# Altium footprint library NNLightSwitcher.PcbLib: 50 footprints (part 2 of 4)
Each footprint in its own frame and in the unit in brackets; x right, y up, seen from the top. Pads: shape width x height; smd on the part's side, far side on the other; paste and mask are expansions set on the pad; w line width, h text height; cw(c..) or ccw(c..) is an arc to the next point about the centre after c.
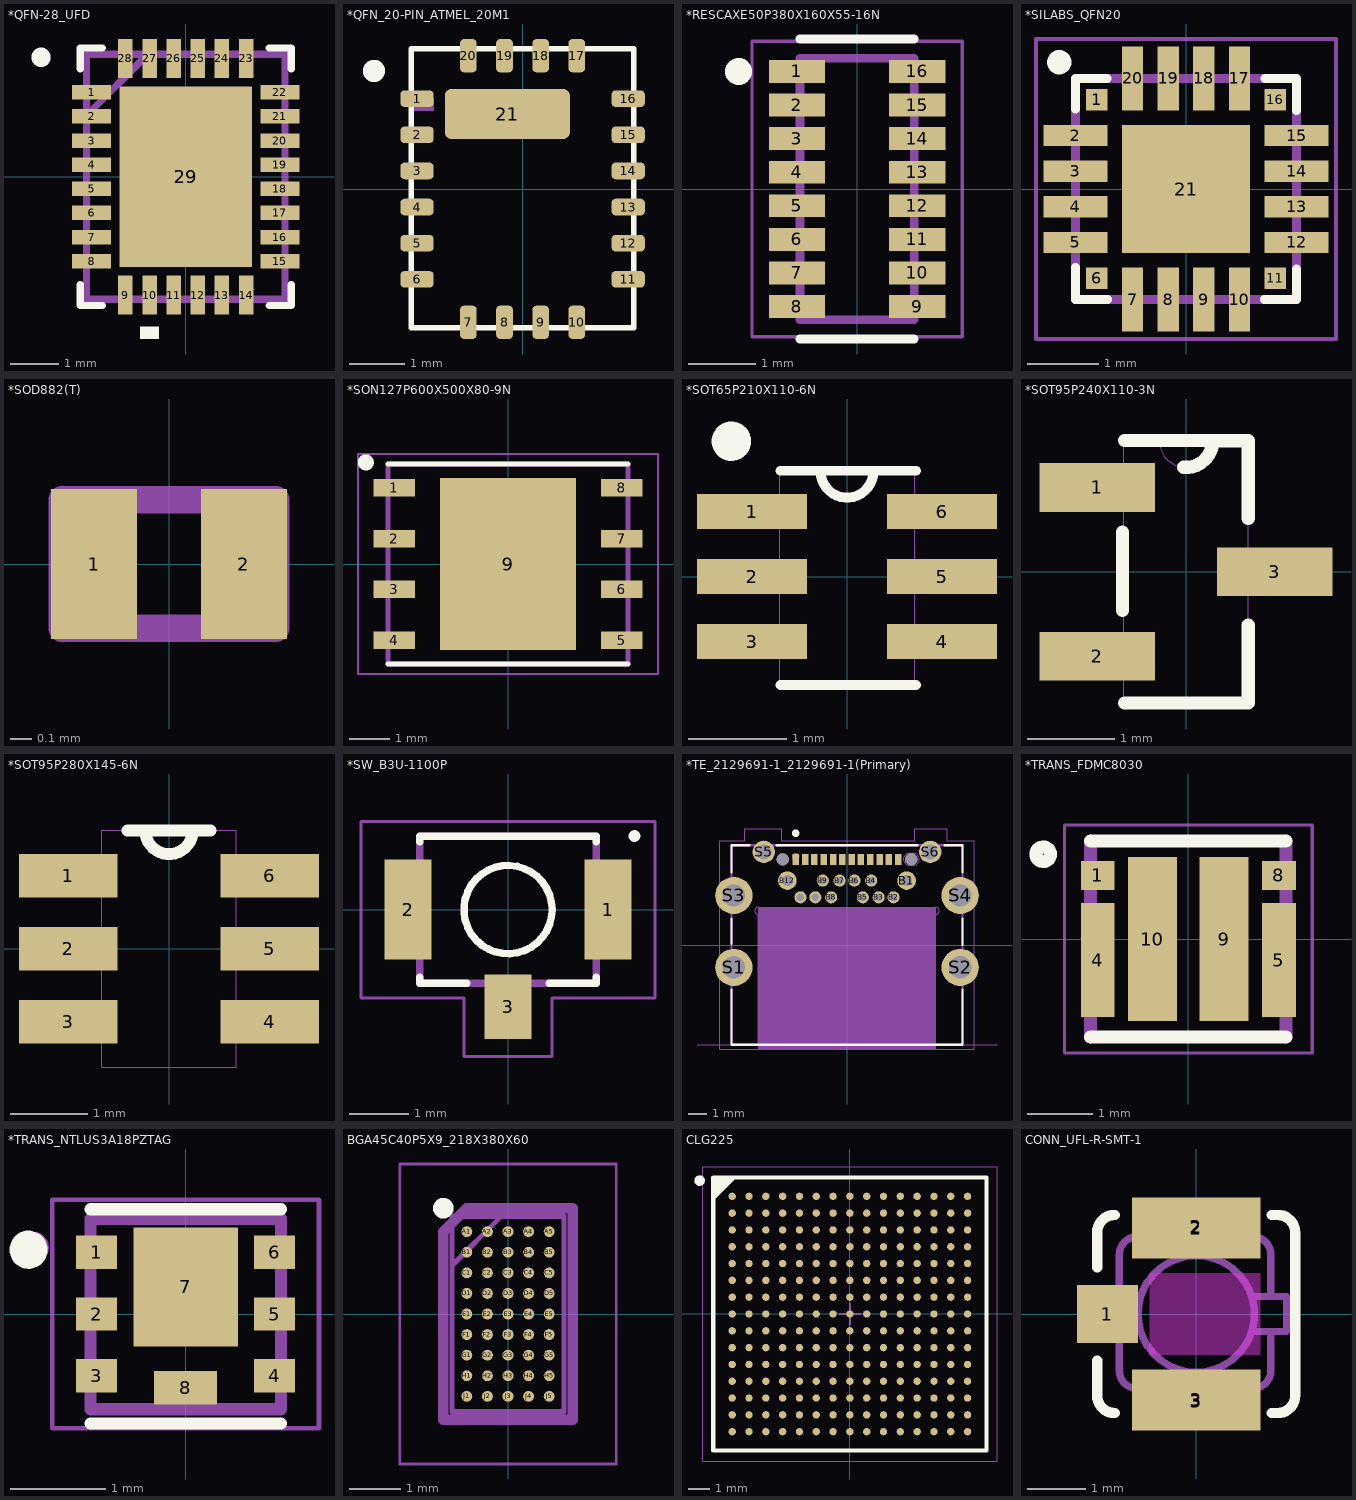
[diagram p1: the footprints below, top view; thin cyan lines are the x and y axes]

## *QFN-28_UFD [mm]
pads (29):
  rect 0.805x0.3 smd: 1(-1.952,1.75) 2(-1.952,1.25) 3(-1.952,0.75) 4(-1.952,0.25) 5(-1.952,-0.25) 6(-1.952,-0.75) 7(-1.952,-1.25) 8(-1.952,-1.75) 15(1.952,-1.75) 16(1.952,-1.25) 17(1.952,-0.75) 18(1.952,-0.25) 19(1.952,0.25) 20(1.952,0.75) 21(1.952,1.25) 22(1.952,1.75)
  rect 0.3x0.805 smd: 9(-1.25,-2.452) 10(-0.75,-2.452) 11(-0.25,-2.452) 12(0.25,-2.452) 13(0.75,-2.452) 14(1.25,-2.452) 23(1.25,2.452) 24(0.75,2.452) 25(0.25,2.452) 26(-0.25,2.452) 27(-0.75,2.452) 28(-1.25,2.452)
  rect 2.75x3.75 smd: 29(0,0)
Top Overlay:
  circle w0.3: c-3,2.475 r0.05
  region: -0.941,-3.109 -0.941,-3.363 -0.56,-3.363 -0.56,-3.109
  lines w0.152: -2.184,-2.235 -2.184,-2.667 -1.727,-2.667 ; -2.184,2.235 -2.184,2.667 -1.727,2.667 ; 1.727,-2.667 2.184,-2.667 2.184,-2.235 ; 1.727,2.667 2.184,2.667 2.184,2.235
Top Paste:
  region: 0.1,-0.1 0.1,-1.775 1.275,-1.775 1.275,-0.1
  region: 0.1,1.775 0.1,0.1 1.275,0.1 1.275,1.775
  region: -1.275,-0.1 -1.275,-1.775 -0.1,-1.775 -0.1,-0.1
  region: -1.275,1.775 -1.275,0.1 -0.1,0.1 -0.1,1.775
Mechanical 4:
  lines w0.152: -2.057,-2.54 -2.057,2.54 ; -2.057,-2.54 2.057,-2.54 ; -2.057,-2.54 -2.057,2.54 ; -2.057,-2.54 2.057,-2.54 ; -2.057,2.54 2.057,2.54 ; -2.057,2.54 2.057,2.54 ; 2.057,-2.54 2.057,2.54 ; 2.057,-2.54 2.057,2.54 ; -2.057,-1.905 -2.057,-1.6 -2.057,-1.905 ; -2.057,-1.397 -2.057,-1.092 -2.057,-1.397 ; -2.057,-0.889 -2.057,-0.61 -2.057,-0.889 ; -2.057,-0.406 -2.057,-0.102 -2.057,-0.406 ; -2.057,0.102 -2.057,0.406 -2.057,0.102 ; -2.057,0.61 -2.057,0.889 -2.057,0.61 ; -2.057,1.092 -2.057,1.397 -2.057,1.092 ; -2.057,1.27 -0.787,2.54 -2.057,1.27 ; -2.057,1.6 -2.057,1.905 -2.057,1.6 ; -1.397,-2.54 -1.092,-2.54 -1.397,-2.54 ; -1.397,2.54 -1.092,2.54 -1.397,2.54 ; -0.889,-2.54 -0.61,-2.54 -0.889,-2.54 ; -0.889,2.54 -0.61,2.54 -0.889,2.54 ; -0.406,-2.54 -0.102,-2.54 -0.406,-2.54 ; -0.406,2.54 -0.102,2.54 -0.406,2.54 ; 0.102,-2.54 0.406,-2.54 0.102,-2.54 ; 0.102,2.54 0.406,2.54 0.102,2.54 ; 0.61,-2.54 0.889,-2.54 0.61,-2.54 ; 0.61,2.54 0.889,2.54 0.61,2.54 ; 1.092,-2.54 1.397,-2.54 1.092,-2.54 ; 1.092,2.54 1.397,2.54 1.092,2.54 ; 2.057,-1.905 2.057,-1.6 2.057,-1.905 ; 2.057,-1.397 2.057,-1.092 2.057,-1.397 ; 2.057,-0.889 2.057,-0.61 2.057,-0.889 ; 2.057,-0.406 2.057,-0.102 2.057,-0.406 ; 2.057,0.102 2.057,0.406 2.057,0.102 ; 2.057,0.61 2.057,0.889 2.057,0.61 ; 2.057,1.092 2.057,1.397 2.057,1.092 ; 2.057,1.6 2.057,1.905 2.057,1.6
  text "*" at -2.134,1.122 h1.88
  text "*" at -2.134,1.122 h1.88
3D body: height 1, standoff 0, extent -2.175,-2.65 2.2,2.65

## *QFN_20-PIN_ATMEL_20M1 [mm]
pads (21):
  rrect50% 0.6x0.3 smd: 1(-1.9,1.625) 2(-1.9,0.975) 3(-1.9,0.325) 4(-1.9,-0.325) 5(-1.9,-0.975) 6(-1.9,-1.625) 11(1.9,-1.625) 12(1.9,-0.975) 13(1.9,-0.325) 14(1.9,0.325) 15(1.9,0.975) 16(1.9,1.625)
  rrect50% 0.3x0.6 smd: 7(-0.975,-2.4) 8(-0.325,-2.4) 9(0.325,-2.4) 10(0.975,-2.4) 17(0.975,2.4) 18(0.325,2.4) 19(-0.325,2.4) 20(-0.975,2.4)
  rrect25% 2.25x0.9 smd: 21(-0.275,1.35)
Top Overlay:
  circle w0.3: c-2.675,2.125 r0.05
  lines w0.1: -2,-2.5 2,-2.5 2,2.525 -2,2.525 -2,-2.5
Mechanical 4:
  region: -2,1.64 -1.6,1.64 -1.6,1.41 -2,1.41
  region: -2,1.64 -1.6,1.64 -1.6,1.41 -2,1.41
3D body: height 0.7, standoff 0, extent -1.975,-2.5 2,2.525

## *RESCAXE50P380X160X55-16N [mm]
pads (16):
  rect 0.84x0.34 smd: 1(-0.895,1.75) 2(-0.895,1.25) 3(-0.895,0.75) 4(-0.895,0.25) 5(-0.895,-0.25) 6(-0.895,-0.75) 7(-0.895,-1.25) 8(-0.895,-1.75) 9(0.895,-1.75) 10(0.895,-1.25) 11(0.895,-0.75) 12(0.895,-0.25) 13(0.895,0.25) 14(0.895,0.75) 15(0.895,1.25) 16(0.895,1.75)
Top Overlay:
  circle w0.2: c-1.765,1.75 r0.1
  lines w0.127: -0.85,-2.234 0.85,-2.234 ; -0.85,2.234 0.85,2.234
Mechanical 4:
  circle w0.2: c-1.765,1.75 r0.1
  circle w0.2: c-1.765,1.75 r0.1
  lines w0.127: -0.85,-1.95 0.85,-1.95 ; -0.85,-1.95 -0.85,1.95 ; -0.85,-1.95 0.85,-1.95 ; -0.85,-1.95 -0.85,1.95 ; -0.85,1.95 0.85,1.95 ; -0.85,1.95 0.85,1.95 ; 0.85,-1.95 0.85,1.95 ; 0.85,-1.95 0.85,1.95
Mechanical 16:
  lines w0.05: -1.565,-2.2 -1.565,2.2 1.565,2.2 1.565,-2.2 -1.565,-2.2
3D body "User Library-YC248-1.step": height 0.45, standoff 0, extent -0.8,-2 0.8,2

## *SILABS_QFN20 [mm]
pads (21):
  rect 0.3x0.3 smd: 1(-1.25,1.25) 6(-1.25,-1.25) 11(1.25,-1.25) 16(1.25,1.25)
  rect 0.9x0.3 smd: 2(-1.55,0.75) 3(-1.55,0.25) 4(-1.55,-0.25) 5(-1.55,-0.75) 12(1.55,-0.75) 13(1.55,-0.25) 14(1.55,0.25) 15(1.55,0.75)
  rect 0.3x0.9 smd: 7(-0.75,-1.55) 8(-0.25,-1.55) 9(0.25,-1.55) 10(0.75,-1.55) 17(0.75,1.55) 18(0.25,1.55) 19(-0.25,1.55) 20(-0.75,1.55)
  rect 1.8x1.8 smd: 21(0,0)
Top Overlay:
  circle w0.2: c-1.778,1.778 r0.07
  lines w0.127: -1.55,-1.1 -1.55,-1.55 -1.1,-1.55 ; -1.55,1.12 -1.55,1.55 -1.11,1.55 ; 1.1,-1.55 1.55,-1.55 1.55,-1.12 ; 1.11,1.55 1.55,1.55 1.55,1.1
Mechanical 4:
  lines w0.127: -1.55,-1.55 1.55,-1.55 ; -1.55,-1.55 -1.55,1.55 ; -1.55,-1.55 1.55,-1.55 ; -1.55,-1.55 -1.55,1.55 ; -1.55,1.55 1.55,1.55 ; -1.55,1.55 1.55,1.55 ; 1.55,-1.55 1.55,1.55 ; 1.55,-1.55 1.55,1.55
Mechanical 16:
  lines w0.05: -2.104,-2.104 2.104,-2.104 2.104,2.104 -2.104,2.104 -2.104,-2.104
3D body "User Library-QFN-20.STEP": height 0.62, standoff -0.08, extent -1.5,-1.475 1.5,1.525

## *SOD882(T) [mm]
pads (2):
  rect 0.4x0.7 smd: 1(-0.35,0) 2(0.35,0)
Top Paste:
  region: 0.2,0.3 0.5,0.3 0.5,-0.3 0.2,-0.3
  region: -0.5,0.3 -0.2,0.3 -0.2,-0.3 -0.5,-0.3
Top Solder:
  region: 0.1,0.4 0.6,0.4 0.6,-0.4 0.1,-0.4
  region: -0.6,0.4 -0.1,0.4 -0.1,-0.4 -0.6,-0.4
Mechanical 4:
  region: -0.45,0.35 -0.15,0.35 -0.15,-0.35 -0.45,-0.35
  region: -0.45,0.35 -0.15,0.35 -0.15,-0.35 -0.45,-0.35
  lines w0.127: -0.5,-0.3 -0.5,0.3 ; -0.5,-0.3 0.5,-0.3 ; -0.5,-0.3 -0.5,0.3 ; -0.5,-0.3 0.5,-0.3 ; -0.5,0.3 0.5,0.3 ; -0.5,0.3 0.5,0.3 ; 0.5,-0.3 0.5,0.3 ; 0.5,-0.3 0.5,0.3
3D body: height 0.5, standoff 0, extent -0.525,-0.325 0.525,0.325

## *SON127P600X500X80-9N [mm]
pads (9):
  rect 1.04x0.44 smd: 1(-2.845,1.905) 2(-2.845,0.635) 3(-2.845,-0.635) 4(-2.845,-1.905) 5(2.845,-1.905) 6(2.845,-0.635) 7(2.845,0.635) 8(2.845,1.905)
  rect 3.4x4.3 smd: 9(0,0)
Top Overlay:
  circle w0.2: c-3.556,2.54 r0.1
  lines w0.127: -3,-2.5 3,-2.5 ; -3,2.5 3,2.5
Top Paste:
  region: -1.076,1.36 1.075,1.36 1.075,-1.361 -1.076,-1.361
Mechanical 4:
  lines w0.127: -3,-2.5 -3,2.5 ; -3,-2.5 3,-2.5 ; -3,-2.5 -3,2.5 ; -3,-2.5 3,-2.5 ; -3,2.5 3,2.5 ; -3,2.5 3,2.5 ; 3,-2.5 3,2.5 ; 3,-2.5 3,2.5
Mechanical 16:
  lines w0.05: -3.75,-2.75 -3.75,2.75 3.75,2.75 3.75,-2.75 -3.75,-2.75
3D body: height 0.7, standoff 0, extent -3,-2.5 3,2.5

## *SOT65P210X110-6N [mil]
pads (6):
  rect 44x14 smd: 1(-38,26) 2(-38,0) 3(-38,-26) 4(38,-26) 5(38,0) 6(38,26)
Top Overlay:
  circle w7.87: c-46.26,54.13 r3.94
  lines w3.94: -26.57,-43.31 27.56,-43.31 ; -26.57,42.32 27.56,42.32 ; -10.42,40.42 ccw(c0,42.13) 10.42,40.42
Mechanical 4:
  lines w0: -43,-31 -43,-20 ; -43,-31 -27,-31 ; -43,-31 -43,-20 ; -43,-31 -27,-31 ; -43,-20 -27,-20 ; -43,-20 -27,-20 ; -43,-6 -43,6 ; -43,-6 -27,-6 ; -43,-6 -43,6 ; -43,-6 -27,-6 ; -43,6 -27,6 ; -43,6 -27,6 ; -43,20 -43,31 ; -43,20 -27,20 ; -43,20 -43,31 ; -43,20 -27,20 ; -43,31 -27,31 ; -43,31 -27,31 ; -27,-43 27,-43 ; -27,-43 -27,-31 ; -27,-43 27,-43 ; -27,-43 -27,-31 ; -27,-31 -27,-20 ; -27,-31 -27,-20 ; -27,-20 -27,-6 ; -27,-20 -27,-6 ; -27,-6 -27,6 ; -27,-6 -27,6 ; -27,6 -27,20 ; -27,6 -27,20 ; -27,20 -27,31 ; -27,20 -27,31 ; -27,31 -27,43 ; -27,31 -27,43 ; -27,43 -12,43 ; -27,43 -12,43 ; -12,43 ccw(c0,43) 12,43 ; -12,43 ccw(c0,43) 12,43 ; -12,43 12,43 ; -12,43 12,43 ; 12,43 27,43 ; 12,43 27,43 ; 27,-43 27,-31 ; 27,-43 27,-31 ; 27,-31 27,-20 ; 27,-31 43,-31 ; 27,-31 27,-20 ; 27,-31 43,-31 ; 27,-20 27,-6 ; 27,-20 43,-20 ; 27,-20 27,-6 ; 27,-20 43,-20 ; 27,-6 27,6 ; 27,-6 43,-6 ; 27,-6 27,6 ; 27,-6 43,-6 ; 27,6 27,20 ; 27,6 43,6 ; 27,6 27,20 ; 27,6 43,6 ; 27,20 27,31 ; 27,20 43,20 ; 27,20 27,31 ; 27,20 43,20 ; 27,31 27,43 ; 27,31 43,31 ; 27,31 27,43 ; 27,31 43,31 ; 43,-31 43,-20 ; 43,-31 43,-20 ; 43,-6 43,6 ; 43,-6 43,6 ; 43,20 43,31 ; 43,20 43,31
3D body "User Library-TSSOP-6 (SOT-23-6 PITCH 0_65).STEP": height 45.28, standoff 1.57, extent -44.29,-44.29 44.29,44.3

## *SOT95P240X110-3N [mil]
pads (3):
  rect 52x22 smd: 1(-40,38) 2(-40,-38) 3(40,0)
Top Overlay:
  lines w6: -28.54,-17.28 -28.54,17.72 ; -27.56,-59.06 28,-59 28,-24 ; -27.56,59.06 12,59 28,59 28,24 ; -1.04,47 ccw(c0,58.96) 12,58.96
Mechanical 4:
  lines w0: -49,-48 -49,-28 ; -49,-48 -28,-48 ; -49,-48 -49,-28 ; -49,-48 -28,-48 ; -49,-28 -28,-28 ; -49,-28 -28,-28 ; -49,28 -49,48 ; -49,28 -28,28 ; -49,28 -49,48 ; -49,28 -28,28 ; -49,48 -28,48 ; -49,48 -28,48 ; -28,-59 28,-59 ; -28,-59 -28,-48 ; -28,-59 28,-59 ; -28,-59 -28,-48 ; -28,-48 -28,-28 ; -28,-48 -28,-28 ; -28,-28 -28,28 ; -28,-28 -28,28 ; -28,28 -28,48 ; -28,28 -28,48 ; -28,48 -28,59 ; -28,48 -28,59 ; -28,59 -12,59 ; -28,59 -12,59 ; -12,59 ccw(c0,59) 12,59 ; -12,59 ccw(c0,59) 12,59 ; -12,59 12,59 ; -12,59 12,59 ; 12,59 28,59 ; 12,59 28,59 ; 28,-59 28,-10 ; 28,-59 28,-10 ; 28,-10 28,10 ; 28,-10 49,-10 ; 28,-10 28,10 ; 28,-10 49,-10 ; 28,10 28,59 ; 28,10 49,10 ; 28,10 28,59 ; 28,10 49,10 ; 49,-10 49,10 ; 49,-10 49,10
3D body "CircuitWorks-SOT-23.step": height 41.34, standoff -1.97, extent -50.2,-59.05 48.22,59.06

## *SOT95P280X145-6N [mil]
pads (6):
  rect 50x22 smd: 1(-51,37) 2(-51,0) 3(-51,-37) 4(51,-37) 5(51,0) 6(51,37)
Top Overlay:
  lines w6: -21,60 -12,60 ; 21,60 12,60 ; -12,60 ccw(c0,60) 12,60 ; -12,60 12,60
Mechanical 4:
  lines w0: -59,-47 -34,-47 ; -59,-47 -59,-28 ; -59,-47 -34,-47 ; -59,-47 -59,-28 ; -59,-28 -34,-28 ; -59,-28 -34,-28 ; -59,-10 -34,-10 ; -59,-10 -59,10 ; -59,-10 -34,-10 ; -59,-10 -59,10 ; -59,10 -34,10 ; -59,10 -34,10 ; -59,28 -34,28 ; -59,28 -59,47 ; -59,28 -34,28 ; -59,28 -59,47 ; -59,47 -34,47 ; -59,47 -34,47 ; -34,-60 -34,-47 ; -34,-60 34,-60 ; -34,-60 -34,-47 ; -34,-60 34,-60 ; -34,-47 -34,-28 ; -34,-47 -34,-28 ; -34,-28 -34,-10 ; -34,-28 -34,-10 ; -34,-10 -34,10 ; -34,-10 -34,10 ; -34,10 -34,28 ; -34,10 -34,28 ; -34,28 -34,47 ; -34,28 -34,47 ; -34,47 -34,60 ; -34,47 -34,60 ; -34,60 -12,60 ; -34,60 -12,60 ; -12,60 ccw(c0,60) 12,60 ; -12,60 ccw(c0,60) 12,60 ; -12,60 12,60 ; -12,60 12,60 ; 12,60 34,60 ; 12,60 34,60 ; 34,-60 34,-47 ; 34,-60 34,-47 ; 34,-47 59,-47 ; 34,-47 34,-28 ; 34,-47 59,-47 ; 34,-47 34,-28 ; 34,-28 59,-28 ; 34,-28 34,-10 ; 34,-28 59,-28 ; 34,-28 34,-10 ; 34,-10 59,-10 ; 34,-10 34,10 ; 34,-10 59,-10 ; 34,-10 34,10 ; 34,10 59,10 ; 34,10 34,28 ; 34,10 59,10 ; 34,10 34,28 ; 34,28 59,28 ; 34,28 34,47 ; 34,28 59,28 ; 34,28 34,47 ; 34,47 59,47 ; 34,47 34,60 ; 34,47 59,47 ; 34,47 34,60 ; 59,-47 59,-28 ; 59,-47 59,-28 ; 59,-10 59,10 ; 59,-10 59,10 ; 59,28 59,47 ; 59,28 59,47

## *SW_B3U-1100P [mm]
pads (3):
  rect 0.8x1.7 smd: 1(1.7,0) 2(-1.7,0)
  rect 0.8x1.1 smd: 3(0,-1.65)
Top Overlay:
  circle w0.127: c0,0 r0.75
  circle w0.1: c2.15,1.25 r0.05
  lines w0.127: -1.5,-1.15 -1.5,-1.25 -0.7,-1.25 ; -1.5,1.15 -1.5,1.25 1.5,1.25 1.5,1.15 ; 0.7,-1.25 1.5,-1.25 1.5,-1.15
Mechanical 4:
  lines w0.127: -1.5,-1.25 1.5,-1.25 ; -1.5,-1.25 -1.5,1.25 ; -1.5,-1.25 1.5,-1.25 ; -1.5,-1.25 -1.5,1.25 ; -1.5,1.25 1.5,1.25 ; -1.5,1.25 1.5,1.25 ; 1.5,-1.25 1.5,1.25 ; 1.5,-1.25 1.5,1.25
Mechanical 16:
  lines w0.05: -2.5,-1.5 -0.75,-1.5 -0.75,-2.5 0.75,-2.5 0.75,-1.5 2.5,-1.5 2.5,1.5 -2.5,1.5 -2.5,-1.5
3D body "User Library-OMRON B3U1000P.step": height 1.6, standoff 0, extent -2,-1.25 2,1.25

## *TE_2129691-1_2129691-1(Primary) [mm]
pads (32):
  rect 0.35x0.6 smd: A1(-2.75,4.6) A2(-2.25,4.6) A3(-1.75,4.6) A4(-1.25,4.6) A5(-0.75,4.6) A6(-0.25,4.6) A7(0.25,4.6) A8(0.75,4.6) A9(1.25,4.6) A10(1.75,4.6) A11(2.25,4.6) A12(2.75,4.6)
  round 1 hole 0.6: B1(3.2,3.46) B12(-3.2,3.46)
  round 0.65 hole 0.4: B2(2.5,2.56) B3(1.7,2.56) B4(1.3,3.46) B5(0.85,2.56) B6(0.4,3.46) B7(-0.4,3.46) B8(-0.85,2.56) B9(-1.3,3.46) B10(-1.7,2.56) B11(-2.5,2.56)
  round 0.65 hole 0.65 unplated: None(-3.45,4.6) None(3.45,4.6)
  round 2 hole 1.2: S1(-6.075,-1.2) S2(6.075,-1.2) S3(-6.075,2.66) S4(6.075,2.66)
  round 1.2 hole 0.8: S5(-4.465,5) S6(4.465,5)
Top Overlay:
  circle w0.2: c-2.75,6 r0.1
  lines w0.127: -6.2,-2.39 -6.2,-5.35 6.2,-5.35 6.2,-2.39 ; -6.2,0.06 -6.2,1.41 ; -6.2,3.91 -6.2,5.35 -5.25,5.35 ; -3.78,5.35 3.78,5.35 ; 5.25,5.35 6.2,5.35 6.2,3.91 ; 6.2,0.01 6.2,1.41
Mechanical 1:
  pour cut-out: -4.75,2.04 4.75,2.04 4.75,-5.6 -4.75,-5.6
  lines w0: -8.05,-5.35 -4.75,-5.35 -4.75,1.64 cw(c-4.75,1.84) -4.75,2.04 4.75,2.04 cw(c4.75,1.84) 4.75,1.64 4.75,-5.35 8.05,-5.35 ; 3.025,4.598 cw(c3.357,4.593) 3.363,4.925 ; 3.025,4.602 ccw(c3.357,4.607) 3.363,4.275 ; 3.365,4.275 3.535,4.275 ; 3.365,4.925 3.535,4.925 ; 3.537,4.275 ccw(c3.542,4.607) 3.875,4.602 ; 3.537,4.925 cw(c3.542,4.593) 3.875,4.598 ; -6.325,-1.7 ccw(c-6.075,-1.7) -6.075,-1.95 ccw(c-6.075,-1.7) -5.825,-1.7 -5.825,-0.7 ccw(c-6.075,-0.7) -6.075,-0.45 ccw(c-6.075,-0.7) -6.325,-0.7 -6.325,-1.7 ; -6.325,2.16 ccw(c-6.075,2.16) -6.075,1.91 ccw(c-6.075,2.16) -5.825,2.16 -5.825,3.16 ccw(c-6.075,3.16) -6.075,3.41 ccw(c-6.075,3.16) -6.325,3.16 -6.325,2.16 ; -4.715,4.7 ccw(c-4.465,4.7) -4.465,4.45 ccw(c-4.465,4.7) -4.215,4.7 -4.215,5.3 ccw(c-4.465,5.3) -4.465,5.55 ccw(c-4.465,5.3) -4.715,5.3 -4.715,4.7 ; -3.65,3.46 cw(c-3.45,3.46) -3.45,3.66 -2.95,3.66 cw(c-2.95,3.46) -2.75,3.46 cw(c-2.95,3.46) -2.95,3.26 -3.45,3.26 cw(c-3.45,3.46) -3.65,3.46 ; 2.75,3.46 cw(c2.95,3.46) 2.95,3.66 3.45,3.66 cw(c3.45,3.46) 3.65,3.46 cw(c3.45,3.46) 3.45,3.26 2.95,3.26 cw(c2.95,3.46) 2.75,3.46 ; 4.215,4.7 ccw(c4.465,4.7) 4.465,4.45 ccw(c4.465,4.7) 4.715,4.7 4.715,5.3 ccw(c4.465,5.3) 4.465,5.55 ccw(c4.465,5.3) 4.215,5.3 4.215,4.7 ; 5.825,-1.7 ccw(c6.075,-1.7) 6.075,-1.95 ccw(c6.075,-1.7) 6.325,-1.7 6.325,-0.7 ccw(c6.075,-0.7) 6.075,-0.45 ccw(c6.075,-0.7) 5.825,-0.7 5.825,-1.7 ; 5.825,2.16 ccw(c6.075,2.16) 6.075,1.91 ccw(c6.075,2.16) 6.325,2.16 6.325,3.16 ccw(c6.075,3.16) 6.075,3.41 ccw(c6.075,3.16) 5.825,3.16 5.825,2.16
Mechanical 4:
  circle w0.2: c-2.75,4.75 r0.1
  circle w0.2: c-2.75,4.75 r0.1
  lines w0.127: -6.2,-5.35 6.2,-5.35 ; -6.2,-5.35 -6.2,5.35 ; -6.2,-5.35 6.2,-5.35 ; -6.2,-5.35 -6.2,5.35 ; -6.2,5.35 6.2,5.35 ; -6.2,5.35 6.2,5.35 ; 6.2,-5.35 6.2,5.35 ; 6.2,-5.35 6.2,5.35
Mechanical 16:
  lines w0.05: -6.83,-5.6 6.83,-5.6 6.83,5.6 5.375,5.6 5.375,6.25 3.625,6.25 3.625,5.6 -3.5,5.6 -3.5,6.25 -5.5,6.25 -5.5,5.6 -6.83,5.6 -6.83,-5.6
3D body "67172.stp": height 2.27, standoff -1.07, extent -6.175,-5.275 6.175,5.425

## *TRANS_FDMC8030 [mm]
pads (6):
  rect 0.52x0.45 smd: 1(-1.39,0.975) 8(1.39,0.975)
  rect 0.52x1.75 smd: 4(-1.39,-0.325) 5(1.39,-0.325)
  rect 0.75x2.52 smd: 9(0.55,0) 10(-0.55,0)
Top Overlay:
  circle w0.2: c-2.225,1.3 r0.112
  lines w0.2: -1.5,-1.5 1.5,-1.5 ; -1.5,1.5 1.5,1.5
Mechanical 4:
  lines w0.2: -1.5,-1.5 -1.5,1.5 -1.5,-1.5 ; 1.5,-1.5 1.5,1.5 1.5,-1.5
Mechanical 16:
  lines w0.05: -1.9,-1.75 -1.9,1.75 1.9,1.75 1.9,-1.75 -1.9,-1.75
3D body: height 0.45, standoff 0, extent -1.5,-1.525 1.5,1.5

## *TRANS_NTLUS3A18PZTAG [mm]
pads (8):
  rect 0.43x0.35 smd: 1(-0.935,0.65) 2(-0.935,0) 3(-0.935,-0.65) 4(0.935,-0.65) 5(0.935,0) 6(0.935,0.65)
  rect 1.1x1.25 smd: 7(0,0.285)
  rect 0.66x0.35 smd: 8(0,-0.775)
Top Overlay:
  circle w0.2: c-1.65,0.675 r0.1
  lines w0.127: -1,-1.15 1,-1.15 ; -1,1.1 1,1.1
Top Paste:
  region: -0.381,0.725 0.38,0.725 0.38,-0.155 -0.381,-0.155
Mechanical 4:
  circle w0.127: c-1.6,0.7 r0.1
  circle w0.127: c-1.6,0.7 r0.1
  lines w0.127: -1,-1 -1,1 ; -1,-1 1,-1 ; -1,-1 -1,1 ; -1,-1 1,-1 ; -1,1 1,1 ; -1,1 1,1 ; 1,-1 1,1 ; 1,-1 1,1
Mechanical 16:
  lines w0.05: -1.4,-1.2 -1.4,1.2 1.4,1.2 1.4,-1.2 -1.4,-1.2
3D body: height 0.5, standoff 0, extent -1,-1.125 1,1.1

## BGA45C40P5X9_218X380X60 [mil]
pads (45):
  rrect100% 8.35x8.35 smd: A1(-31.5,62.99) A2(-15.75,62.99) A3(0,62.99) A4(15.75,62.99) A5(31.5,62.99) B1(-31.5,47.24) B2(-15.75,47.24) B3(0,47.24) B4(15.75,47.24) B5(31.5,47.24) C1(-31.5,31.5) C2(-15.75,31.5) C3(0,31.5) C4(15.75,31.5) C5(31.5,31.5) D1(-31.5,15.75) D2(-15.75,15.75) D3(0,15.75) D4(15.75,15.75) D5(31.5,15.75) E1(-31.5,0) E2(-15.75,0) E3(0,0) E4(15.75,0) E5(31.5,0) F1(-31.5,-15.75) F2(-15.75,-15.75) F3(0,-15.75) F4(15.75,-15.75) F5(31.5,-15.75) G1(-31.5,-31.5) G2(-15.75,-31.5) G3(0,-31.5) G4(15.75,-31.5) G5(31.5,-31.5) H1(-31.5,-47.24) H2(-15.75,-47.24) H3(0,-47.24) H4(15.75,-47.24) H5(31.5,-47.24) J1(-31.5,-62.99) J2(-15.75,-62.99) J3(0,-62.99) J4(15.75,-62.99) J5(31.5,-62.99)
Top Overlay:
  circle w7.87: c-49.45,80.94 r3.94
Mechanical 3:
  lines w1.97: -82.87,-114.76 -82.87,114.76 82.87,114.76 82.87,-114.76 -82.87,-114.76
  lines w3.94: -42.91,37.09 -5.2,74.8 ; -42.91,-74.8 -42.91,74.8 42.91,74.8 42.91,-74.8 -42.91,-74.8
Mechanical 7:
  lines w7.87: -49.45,-80.94 -49.45,62.99 -31.5,80.94 49.45,80.94 49.45,-80.94 -49.45,-80.94
3D body "TS51111-M22WCSR.stp": height 19.68, standoff -3.94, extent -42.91,-74.8 42.92,74.81

## CLG225 [mm] "BGA, 225-Balls, Body 13x13mm, Pitch 0.8mm"
height 1.5
pads (225):
  round 0.35 smd: A1(-5.6,5.6) A2(-4.8,5.6) A3(-4,5.6) A4(-3.2,5.6) A5(-2.4,5.6) A6(-1.6,5.6) A7(-0.8,5.6) A8(0,5.6) A9(0.8,5.6) A10(1.6,5.6) A11(2.4,5.6) A12(3.2,5.6) A13(4,5.6) A14(4.8,5.6) A15(5.6,5.6) B1(-5.6,4.8) B2(-4.8,4.8) B3(-4,4.8) B4(-3.2,4.8) B5(-2.4,4.8) B6(-1.6,4.8) B7(-0.8,4.8) B8(0,4.8) B9(0.8,4.8) B10(1.6,4.8) B11(2.4,4.8) B12(3.2,4.8) B13(4,4.8) B14(4.8,4.8) B15(5.6,4.8) C1(-5.6,4) C2(-4.8,4) C3(-4,4) C4(-3.2,4) C5(-2.4,4) C6(-1.6,4) C7(-0.8,4) C8(0,4) C9(0.8,4) C10(1.6,4) C11(2.4,4) C12(3.2,4) C13(4,4) C14(4.8,4) C15(5.6,4) D1(-5.6,3.2) D2(-4.8,3.2) D3(-4,3.2) D4(-3.2,3.2) D5(-2.4,3.2) D6(-1.6,3.2) D7(-0.8,3.2) D8(0,3.2) D9(0.8,3.2) D10(1.6,3.2) D11(2.4,3.2) D12(3.2,3.2) D13(4,3.2) D14(4.8,3.2) D15(5.6,3.2) E1(-5.6,2.4) E2(-4.8,2.4) E3(-4,2.4) E4(-3.2,2.4) E5(-2.4,2.4) E6(-1.6,2.4) E7(-0.8,2.4) E8(0,2.4) E9(0.8,2.4) E10(1.6,2.4) E11(2.4,2.4) E12(3.2,2.4) E13(4,2.4) E14(4.8,2.4) E15(5.6,2.4) F1(-5.6,1.6) F2(-4.8,1.6) F3(-4,1.6) F4(-3.2,1.6) F5(-2.4,1.6) F6(-1.6,1.6) F7(-0.8,1.6) F8(0,1.6) F9(0.8,1.6) F10(1.6,1.6) F11(2.4,1.6) F12(3.2,1.6) F13(4,1.6) F14(4.8,1.6) F15(5.6,1.6) G1(-5.6,0.8) G2(-4.8,0.8) G3(-4,0.8) G4(-3.2,0.8) G5(-2.4,0.8) G6(-1.6,0.8) G7(-0.8,0.8) G8(0,0.8) G9(0.8,0.8) G10(1.6,0.8) G11(2.4,0.8) G12(3.2,0.8) G13(4,0.8) G14(4.8,0.8) G15(5.6,0.8) H1(-5.6,0) H2(-4.8,0) H3(-4,0) H4(-3.2,0) H5(-2.4,0) H6(-1.6,0) H7(-0.8,0) H8(0,0) H9(0.8,0) H10(1.6,0) H11(2.4,0) H12(3.2,0) H13(4,0) H14(4.8,0) H15(5.6,0) J1(-5.6,-0.8) J2(-4.8,-0.8) J3(-4,-0.8) J4(-3.2,-0.8) J5(-2.4,-0.8) J6(-1.6,-0.8) J7(-0.8,-0.8) J8(0,-0.8) J9(0.8,-0.8) J10(1.6,-0.8) J11(2.4,-0.8) J12(3.2,-0.8) J13(4,-0.8) J14(4.8,-0.8) J15(5.6,-0.8) K1(-5.6,-1.6) K2(-4.8,-1.6) K3(-4,-1.6) K4(-3.2,-1.6) K5(-2.4,-1.6) K6(-1.6,-1.6) K7(-0.8,-1.6) K8(0,-1.6) K9(0.8,-1.6) K10(1.6,-1.6) K11(2.4,-1.6) K12(3.2,-1.6) K13(4,-1.6) K14(4.8,-1.6) K15(5.6,-1.6) L1(-5.6,-2.4) L2(-4.8,-2.4) L3(-4,-2.4) L4(-3.2,-2.4) L5(-2.4,-2.4) L6(-1.6,-2.4) L7(-0.8,-2.4) L8(0,-2.4) L9(0.8,-2.4) L10(1.6,-2.4) L11(2.4,-2.4) L12(3.2,-2.4) L13(4,-2.4) L14(4.8,-2.4) L15(5.6,-2.4) M1(-5.6,-3.2) M2(-4.8,-3.2) M3(-4,-3.2) M4(-3.2,-3.2) M5(-2.4,-3.2) M6(-1.6,-3.2) M7(-0.8,-3.2) M8(0,-3.2) M9(0.8,-3.2) M10(1.6,-3.2) M11(2.4,-3.2) M12(3.2,-3.2) M13(4,-3.2) M14(4.8,-3.2) M15(5.6,-3.2) N1(-5.6,-4) N2(-4.8,-4) N3(-4,-4) N4(-3.2,-4) N5(-2.4,-4) N6(-1.6,-4) N7(-0.8,-4) N8(0,-4) N9(0.8,-4) N10(1.6,-4) N11(2.4,-4) N12(3.2,-4) N13(4,-4) N14(4.8,-4) N15(5.6,-4) P1(-5.6,-4.8) P2(-4.8,-4.8) P3(-4,-4.8) P4(-3.2,-4.8) P5(-2.4,-4.8) P6(-1.6,-4.8) P7(-0.8,-4.8) P8(0,-4.8) P9(0.8,-4.8) P10(1.6,-4.8) P11(2.4,-4.8) P12(3.2,-4.8) P13(4,-4.8) P14(4.8,-4.8) P15(5.6,-4.8) R1(-5.6,-5.6) R2(-4.8,-5.6) R3(-4,-5.6) R4(-3.2,-5.6) R5(-2.4,-5.6) R6(-1.6,-5.6) R7(-0.8,-5.6) R8(0,-5.6) R9(0.8,-5.6) R10(1.6,-5.6) R11(2.4,-5.6) R12(3.2,-5.6) R13(4,-5.6) R14(4.8,-5.6) R15(5.6,-5.6)
Top Overlay:
  circle w0.25: c-7.15,6.35 r0.125
  region: -5.513,6.5 -6.5,5.513 -6.5,6.5
  lines w0.2: -6.5,5.513 -5.513,6.5 ; -6.5,-6.5 -6.5,6.5 6.5,6.5 6.5,-6.5 -6.5,-6.5
Mechanical 13:
  lines w0.1: -6.5,-6.5 -6.5,6.5 6.5,6.5 6.5,-6.5 -6.5,-6.5
Mechanical 15:
  lines w0.05: -7,-7 -7,7 7,7 7,-7 -7,-7
  lines w0.1: -0.5,0 0.5,0 ; 0,-0.5 0,0.5
3D body: height 1.5, standoff 0.25, extent -6.5,-6.5 6.5,6.5

## CONN_UFL-R-SMT-1 [mm] "Hirose recommended land pattern http://www.hirose.co.jp/cataloge_hp/e32119372.pdf 2009.2"
height 1.25
pads (7):
  rect 1.05x1 smd paste-0.1 mask-0.1: 1(-1.525,0)
  rect 2.2x1.05 smd paste-2 mask-2: 2(0,1.475) 3(0,-1.475)
  rect 2x0.9 on Top Paste: 2(0,1.5) 3(0,-1.5)
  rect 2x0.9 on Top Solder: 2(0,1.5) 3(0,-1.5)
Top Layer keep-out:
  rectangle: -0.8,-0.7 1.1,0.7
Top Overlay:
  lines w0.178: -1.7,-0.8 -1.7,-1.4 ccw(c-1.4,-1.4) -1.4,-1.7 ; -1.7,0.8 -1.7,1.4 cw(c-1.4,1.4) -1.4,1.7 ; 1.3,-1.7 1.4,-1.7 ccw(c1.4,-1.4) 1.7,-1.4 1.7,0 1.7,1.4 ccw(c1.4,1.4) 1.4,1.7 1.3,1.7
Mechanical 5:
  lines w0.127: -1.319,-0.3 -1.55,-0.3 -1.55,0.3 -1.319,0.3 ; -0.9,-1.277 -0.9,-1.5 0.9,-1.5 0.9,-1.277 ; -0.9,1.323 -0.9,1.5 0.9,1.5 0.9,1.323 ; 0.954,-0.3 1.55,-0.3 1.55,0.3 0.954,0.3 ; 1.281,-0.3 1.281,-0.977 cw(c0.981,-0.977) 0.981,-1.277 -1.019,-1.277 cw(c-1.019,-0.977) -1.319,-0.977 -1.319,1.023 cw(c-1.019,1.023) -1.019,1.323 0.981,1.323 cw(c0.981,1.023) 1.281,1.023 1.281,0.3 ; 0,-1 cw(c0,0) 0,1 ; 0,-1 ccw(c0,0) 0,1 ; 0,-1 ccw(c0,0) 0,1 ; 0,-1 cw(c0,0) 0,1
  text ".Designator" at 0.211,-0.44 h0.38
3D body "U.FL-R-SMT-1.stp": height 1.27, standoff 0.01, extent -1.55,-1.5 1.55,1.5